# Altium footprint library 1_to_5_Pin.PcbLib: 133 footprints (part 4 of 9)
Each footprint in its own frame and in the unit in brackets; x right, y up, seen from the top. Pads: shape width x height; smd on the part's side, far side on the other; paste and mask are expansions set on the pad; w line width, h text height; cw(c..) or ccw(c..) is an arc to the next point about the centre after c.
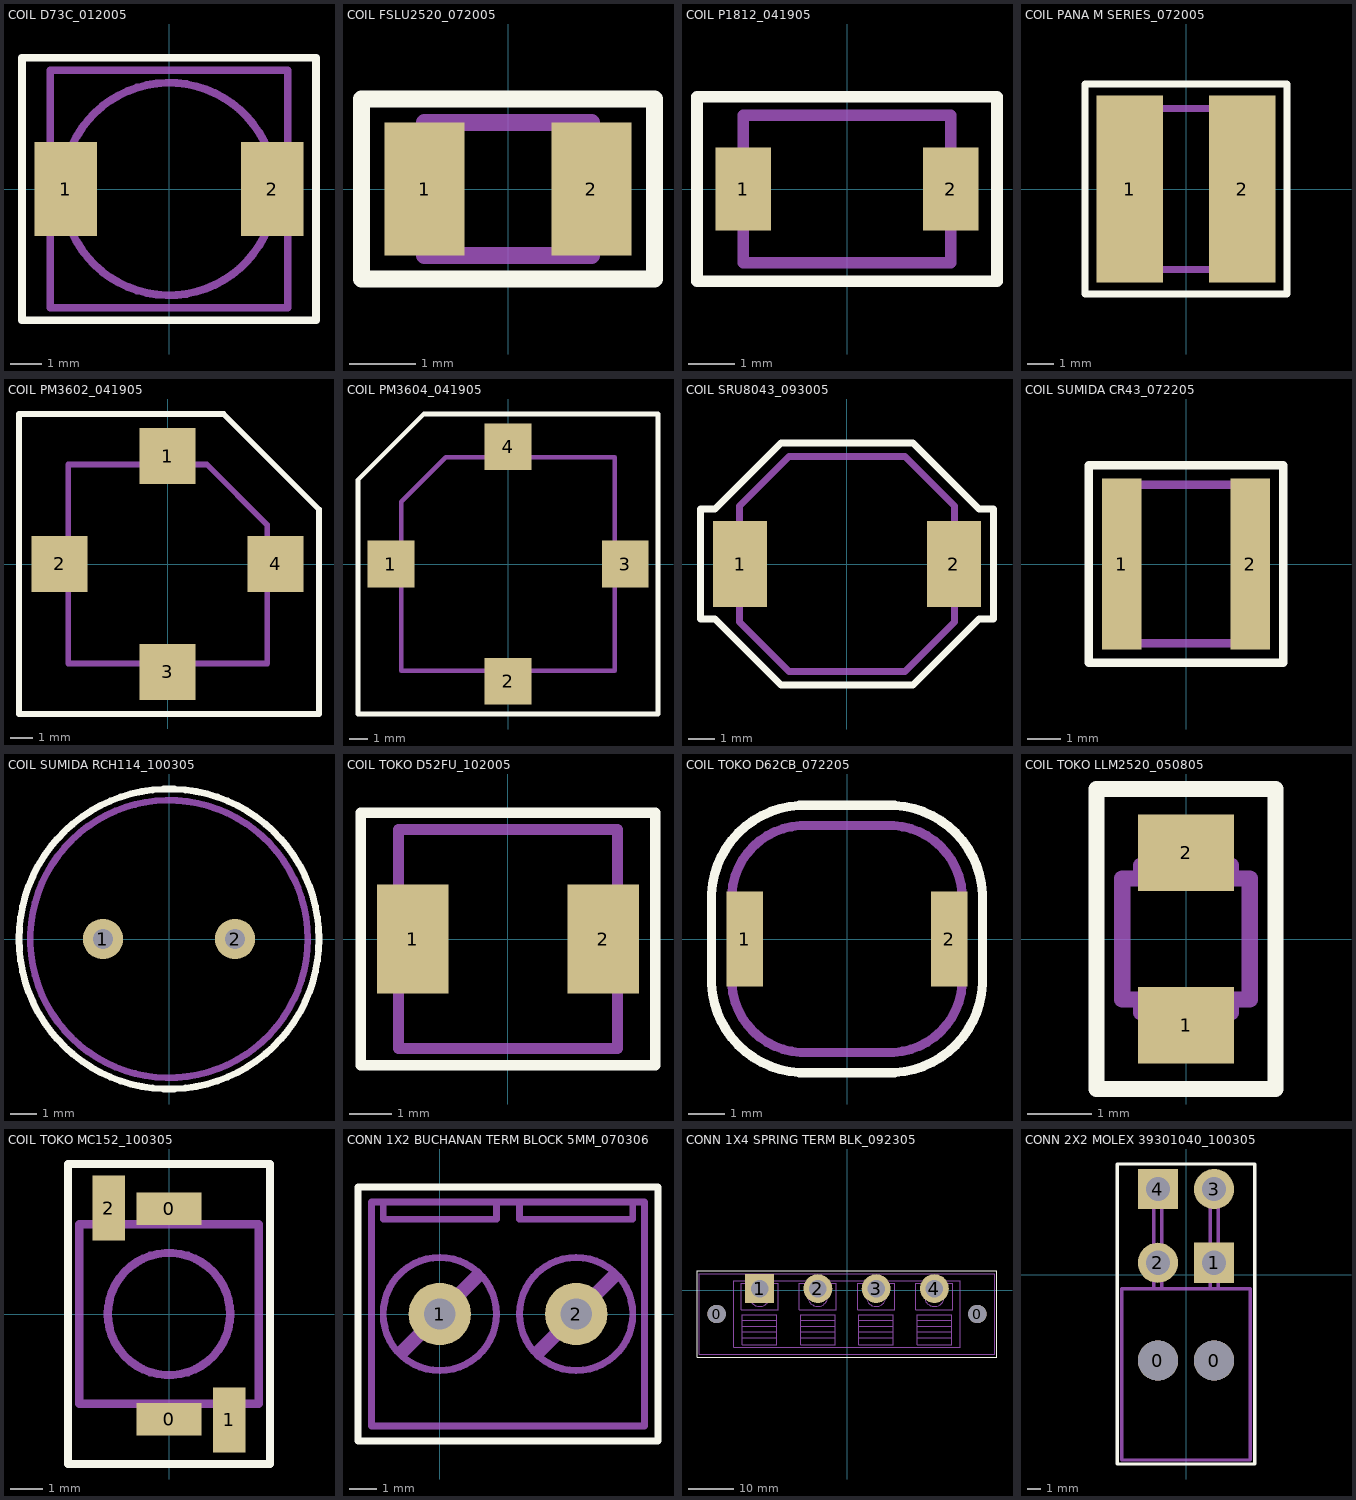
[diagram p3: the footprints below, top view; thin cyan lines are the x and y axes]

## COIL D73C_012005 [mm] "SMT"
height 5.334
pads (2):
  rect 2x3 smd: 1(-3.3,0) 2(3.3,0)
Top Overlay:
  lines w0.254: -4.7,-4.2 -4.7,4.2 4.7,4.2 4.7,0.1 4.7,-4.2 -4.7,-4.2
Assembly Outline:
  circle w0.254: c0,0 r3.4
  lines w0.254: -3.8,-1 -4.1,-1 -4.1,1 -3.8,1 -3.8,0 ; 3.8,-1 4.1,-1 4.1,1 3.8,1 3.8,0 ; -3.8,0 -3.8,3.8 3.8,3.8 3.8,-3.8 -3.8,-3.8 -3.8,0
Assembly Designator:
  text ".Designator" at -1.143,1.397 h1.02
Assembly Comment:
  text ".Comment" at -2.794,-0.381 h1.02

## COIL FSLU2520_072005 [mm] "SM"
height 1.8
pads (2):
  rect 1.2x2 smd: 1(-1.25,0) 2(1.25,0)
Top Overlay:
  lines w0.254: -2.2,-1.35 0,-1.35 2.2,-1.35 2.2,0 2.2,1.35 0,1.35 -2.2,1.35 -2.2,0 -2.2,-1.35
Assembly Outline:
  lines w0.254: 0,1 -1.25,1 ; -1.25,1 1.25,1 1.25,-1 -1.25,-1 -1.25,1
Assembly Designator:
  text ".Designator" at -0.75,-0.475 h1.02
Assembly Comment:
  text ".Comment" at -3.025,-2.475 h1.02

## COIL P1812_041905 [mm] "SMT"
height 3.175
pads (2):
  rect 1.2x1.8 smd: 1(-2.25,0) 2(2.25,0)
Top Overlay:
  lines w0.254: -3.25,-2 3.25,-2 3.25,2 -0.85,2 -3.25,2 -3.25,-2
Assembly Outline:
  lines w0.254: -2.25,-1.6 2.25,-1.6 2.25,1.6 -2.25,1.6 -2.25,-1.6
Assembly Designator:
  text ".Designator" at -1.488,-0.381 h1.02
Assembly Comment:
  text ".Comment" at -3.139,-2.667 h1.02

## COIL PANA M SERIES_072005 [mm] "SMT"
height 2
pads (2):
  rect 2.5x7 smd: 1(-2.1,0) 2(2.1,0)
Top Overlay:
  lines w0.254: -3.775,-3.925 3.775,-3.925 3.775,0 3.775,3.925 0,3.925 -3.775,3.925 -3.775,0 -3.775,-3.925
Assembly Outline:
  lines w0.254: -3,-1.8 -3,0 -3,1.8 -1.8,3 0,3 1.8,3 3,1.8 3,-1.8 1.8,-3 -1.8,-3 -3,-1.8
Assembly Designator:
  text ".Designator" at -0.85,-0.375 h1.02
Assembly Comment:
  text ".Comment" at -3.4,-5.125 h1.02

## COIL PM3602_041905 [mil] "SMT"
height 220
pads (4):
  rect 100x100 smd: 1(0,192.5) 2(-192.5,0) 3(0,-192.5) 4(192.5,0)
Top Overlay:
  lines w10: -265,-267.5 0,-267.5 270,-267.5 270,97.5 100,267.5 -265,267.5 -265,-267.5
Assembly Outline:
  lines w10: -177.5,-40 -227.5,-40 -227.5,0 -227.5,40 -177.5,40 ; -177.5,0 -177.5,-177.5 ; -40,-177.5 -40,-227.5 0,-227.5 40,-227.5 40,-177.5 ; -40,177.5 -40,227.5 0,227.5 40,227.5 40,177.5 ; 177.5,-40 227.5,-40 227.5,0 227.5,40 177.5,40 ; -177.5,-177.5 177.5,-177.5 177.5,70 70,177.5 -177.5,177.5 -177.5,-177.5
Assembly Designator:
  text ".Designator" at -75,60 h40
Assembly Comment:
  text ".Comment" at -95,-115 h40

## COIL PM3604_041905 [mil] "SMT"
height 250
pads (4):
  rect 100x100 smd: 1(-250,0) 2(0,-250) 3(250,0) 4(0,250)
Top Overlay:
  lines w10: -320,-320 320,-320 320,-265 320,0 320,270 320,320 -180,320 -320,180 -320,0 -320,-320
Assembly Outline:
  lines w10: -227.5,-40 -277.5,-40 -277.5,0 -277.5,40 -227.5,40 ; -40,-227.5 -40,-277.5 0,-277.5 40,-277.5 40,-227.5 ; -40,227.5 -40,277.5 0,277.5 40,277.5 40,227.5 ; 227.5,-40 277.5,-40 277.5,0 277.5,40 227.5,40 ; -227.5,-227.5 -227.5,-177.5 -227.5,70 -227.5,132.5 -132.5,227.5 -70,227.5 177.5,227.5 227.5,227.5 227.5,177.5 227.5,-177.5 227.5,-227.5 177.5,-227.5 -177.5,-227.5 -227.5,-227.5
Assembly Designator:
  text ".Designator" at -101.69,64.77 h40
Assembly Comment:
  text ".Comment" at -121.69,-110.23 h40

## COIL SRU8043_093005 [mm] "SMT"
height 4.3
pads (2):
  rect 2x3.2 smd: 1(-3.975,0) 2(3.975,0)
Top Overlay:
  lines w0.254: -5.45,-2.05 -4.9,-2.05 -2.45,-4.5 0,-4.5 2.45,-4.5 4.9,-2.05 5.45,-2.05 5.45,0 5.45,2.05 4.9,2.05 2.45,4.5 0,4.5 -2.45,4.5 -4.9,2.05 -5.45,2.05 -5.45,0 -5.45,-2.05
Assembly Outline:
  lines w0.254: -4,-2.15 -4,0 -4,2.15 -2.15,4 2.15,4 4,2.15 4,-2.15 2.15,-4 -2.15,-4 -4,-2.15
Assembly Designator:
  text ".Designator" at -1.1,-0.35 h1.02
Assembly Comment:
  text ".Comment" at -4.65,-5.8 h1.02

## COIL SUMIDA CR43_072205 [mm] "SMT"
height 3.5
pads (2):
  rect 1.2x5.2 smd: 1(-1.95,0) 2(1.95,0)
Top Overlay:
  lines w0.254: -2.95,-3 0,-3 2.95,-3 2.95,0 2.95,3 0,3 -2.95,3 -2.95,0 -2.95,-3
Assembly Outline:
  lines w0.254: 0,2.4 -2.15,2.4 ; -2.15,2.4 2.15,2.4 2.15,-2.4 -2.15,-2.4 -2.15,2.4
Assembly Designator:
  text ".Designator" at -0.875,-0.375 h1.02
Assembly Comment:
  text ".Comment" at -3.225,-4.275 h1.02

## COIL SUMIDA RCH114_100305 [mil] "TH"
height 566.93
pads (2):
  round 60 hole 30: 1(-98.43,0) 2(98.43,0)
Top Overlay:
  circle w10: c0,0 r223.43
Assembly Outline:
  circle w10: c0,0 r206.69
Assembly Designator:
  text ".Designator" at -30.51,-14.76 h40
Assembly Comment:
  text ".Comment" at -149.61,-97.44 h40

## COIL TOKO D52FU_102005 [mm] "SMT"
height 2.2
pads (2):
  rect 1.7x2.6 smd: 1(-2.262,0) 2(2.263,0)
Top Overlay:
  lines w0.254: -3.5,-3 -2.375,-3 3.5,-3 3.5,0 3.5,3 2.375,3 -3.5,3 -3.5,0 -3.5,-3
Assembly Outline:
  lines w0.254: -2.6,-2.6 -2.6,0 -2.6,2.6 0,2.6 2.6,2.6 2.6,0 2.6,-2.6 0,-2.6 -2.6,-2.6
Assembly Designator:
  text ".Designator" at -0.8,-0.35 h1.02
Assembly Comment:
  text ".Comment" at -3.375,-4.375 h1.02

## COIL TOKO D62CB_072205 [mm] "SMT"
height 2.5
pads (2):
  rect 1x2.6 smd: 1(-2.8,0) 2(2.8,0)
Top Overlay:
  lines w0.254: -3.702,-0.969 ccw(c-1.162,-1.112) -1.306,-3.652 1.306,-3.652 ccw(c1.162,-1.112) 3.702,-0.969 3.702,0.969 ccw(c1.162,1.112) 1.306,3.652 -1.306,3.652 ccw(c-1.162,1.112) -3.702,0.969 -3.702,-0.969
Assembly Outline:
  lines w0.254: -3.15,-1 ccw(c-1.163,-1.113) -1.275,-3.1 1.275,-3.1 ccw(c1.163,-1.113) 3.15,-1 3.15,1 ccw(c1.163,1.113) 1.275,3.1 -1.275,3.1 ccw(c-1.163,1.113) -3.15,1 -3.15,-1
Assembly Designator:
  text ".Designator" at -1.35,-0.35 h1.02
Assembly Comment:
  text ".Comment" at -3.4,-4.725 h1.02

## COIL TOKO LLM2520_050805 [mm] "SMT"
height 3.302
pads (2):
  rect 1.5x1.2 smd: 1(0,-1.35) 2(0,1.35)
Top Overlay:
  lines w0.254: -1.4,-2.35 -1.4,0.05 -1.4,2.35 1.4,2.35 1.4,-2.35 -1.4,-2.35
Assembly Outline:
  lines w0.254: 0,-0.95 0,-1.15 ; 0,0.95 0,1.15 ; -0.7,-0.95 0.7,-0.95 ; -0.7,-0.95 -1,-0.95 -1,0.95 -0.7,0.95 ; -0.7,-0.95 -0.7,-1.15 0,-1.15 ; -0.7,0.95 0.7,0.95 ; -0.7,0.95 -0.7,1.15 0,1.15 ; 0,-1.15 0.7,-1.15 0.7,-0.95 ; 0,1.15 0.7,1.15 0.7,0.95 ; 0.7,-0.95 1,-0.95 1,0.95 0.7,0.95
Assembly Designator:
  text ".Designator" at -1.472,-0.714 h1.02
Assembly Comment:
  text ".Comment" at 2.338,-1.476 h1.02

## COIL TOKO MC152_100305 [mm] "SMT"
height 5.2
pads (4):
  rect 2x1 smd: 0(0,-3.225) 0(0,3.225)
  rect 1x2 smd: 1(1.85,-3.25) 2(-1.85,3.25)
Top Overlay:
  lines w0.254: -3.1,-4.6 0,-4.6 3.1,-4.6 3.1,0 3.1,4.6 0,4.6 -3.1,4.6 -3.1,0 -3.1,-4.6
Assembly Outline:
  circle w0.254: c0,0 r1.875
  lines w0.254: -1.85,2.75 -2.1,2.75 -2.1,3.5 -1.6,3.5 -1.6,2.75 ; -0.5,-2.75 -0.5,-3.5 0,-3.5 0.5,-3.5 0.5,-2.75 ; -0.5,2.75 -0.5,3.5 0,3.5 0.5,3.5 0.5,2.75 ; 0,2.75 2.75,2.75 ; 1.6,-2.75 1.6,-3.5 2.1,-3.5 2.1,-2.75 1.85,-2.75 ; 2.75,2.75 2.75,-2.75 -2.75,-2.75 -2.75,2.75 2.75,2.75
Assembly Designator:
  text ".Designator" at -1.025,-0.4 h1.02
Assembly Comment:
  text ".Comment" at -2.375,-6.275 h1.02

## CONN 1X2 BUCHANAN TERM BLOCK 5MM_070306 [mil] "TH"
height 393.7
pads (2):
  round 90 hole 45: 1(0,0) 2(196.85,0)
Top Overlay:
  lines w10: -118.11,-183.07 314.96,-183.07 314.96,0 314.96,183.07 -16.73,183.07 -118.11,183.07 -118.11,0 -118.11,-183.07
Assembly Outline:
  circle w10: c196.85,0 r81.69
  circle w10: c0,0 r81.69
  lines w10: -81.69,161.42 -81.69,136.81 0,136.81 81.69,136.81 81.69,161.42 ; 115.16,161.42 115.16,136.81 196.85,136.81 278.54,136.81 278.54,161.42 ; -98.43,-161.42 -98.43,0 -98.43,161.42 0,161.42 295.28,161.42 295.28,0 295.28,-161.42 0,-161.42 -98.43,-161.42
  lines w20: -53.15,-53.15 0,0 53.15,53.15 ; 143.7,-53.15 196.85,0 250,53.15
Assembly Designator:
  text ".Designator" at 61.02,-16.73 h40
Assembly Comment:
  text ".Comment" at 17.72,-136.81 h40

## CONN 1X4 SPRING TERM BLK_092305 [mil] "TH"
height 540
pads (6):
  round 160 hole 160: 0(-1130,-205) 0(1130,-205)
  rect 250x250 hole 150: 1(-757.5,15)
  round 250 hole 150: 2(-252.5,15) 3(252.5,15) 4(757.5,15)
Top Overlay:
  lines w10: -252.5,170 1300,170 1300,-580 -1300,-580 -1300,170 252.5,170
Assembly Outline:
  circle w10: c757.5,-55 r85
  circle w10: c252.5,-55 r85
  circle w10: c-252.5,-55 r85
  circle w10: c-757.5,-55 r85
  lines w10: -607.5,-410 -872.5,-410 -907.5,-410 -907.5,-360 ; -607.5,-360 -872.5,-360 -907.5,-360 ; -607.5,-310 -872.5,-310 -907.5,-310 ; -607.5,-260 -882.5,-260 -907.5,-260 ; -597.5,-55 -597.5,60 ; -102.5,-410 -367.5,-410 -402.5,-410 -402.5,-360 ; -102.5,-360 -367.5,-360 -402.5,-360 ; -102.5,-310 -367.5,-310 -402.5,-310 ; -102.5,-260 -377.5,-260 -402.5,-260 ; -92.5,-55 -92.5,60 ; 402.5,-410 137.5,-410 102.5,-410 102.5,-360 ; 402.5,-360 137.5,-360 102.5,-360 ; 402.5,-310 137.5,-310 102.5,-310 ; 402.5,-260 127.5,-260 102.5,-260 ; 412.5,-55 412.5,60 ; 907.5,-410 642.5,-410 607.5,-410 607.5,-360 ; 907.5,-360 642.5,-360 607.5,-360 ; 907.5,-310 642.5,-310 607.5,-310 ; 907.5,-260 632.5,-260 607.5,-260 ; 917.5,-55 917.5,60 ; 1280,-205 1280,145 ; -907.5,-360 -907.5,-310 ; -907.5,-310 -907.5,-260 ; -907.5,-260 -907.5,-210 ; -907.5,-210 -607.5,-210 -607.5,-470 -907.5,-470 -907.5,-210 ; -597.5,60 -597.5,-170 -917.5,-170 -917.5,60 -597.5,60 ; -402.5,-360 -402.5,-310 ; -402.5,-310 -402.5,-260 ; -402.5,-260 -402.5,-210 ; -402.5,-210 -102.5,-210 -102.5,-470 -402.5,-470 -402.5,-210 ; -92.5,60 -92.5,-170 -412.5,-170 -412.5,60 -92.5,60 ; 102.5,-360 102.5,-310 ; 102.5,-310 102.5,-260 ; 102.5,-260 102.5,-210 ; 102.5,-210 402.5,-210 402.5,-470 102.5,-470 102.5,-210 ; 412.5,60 412.5,-170 92.5,-170 92.5,60 412.5,60 ; 607.5,-360 607.5,-310 ; 607.5,-310 607.5,-260 ; 607.5,-260 607.5,-210 ; 607.5,-210 907.5,-210 907.5,-470 607.5,-470 607.5,-210 ; 917.5,60 917.5,-170 597.5,-170 597.5,60 917.5,60 ; 1280,145 0,145 -1280,145 -1280,-555 1280,-555 1280,145 ; -980,-495 980,-495 980,85 -980,85 -980,-495

## CONN 2X2 MOLEX 39301040_100305 [mm] "TH"
height 9.6
pads (6):
  round 3 hole 3: 0(-2.1,-6.4) 0(2.1,-6.4)
  rect 3x3 hole 1.8: 1(2.1,0.9) 4(-2.1,6.4)
  round 3 hole 1.8: 2(-2.1,0.9) 3(2.1,6.4)
Top Overlay:
  lines w0.254: -5.125,-14.125 -5.125,8.275 0,8.275 5.125,8.275 5.125,-14.125 0,-14.125 -5.125,-14.125
Assembly Outline:
  lines w0.254: -2.4,-1.025 -2.4,6.4 -1.8,6.4 -1.8,-1.025 -2.1,-1.025 ; -2.4,0.9 -2.1,0.9 -1.8,0.9 ; 1.8,-1.025 1.8,6.4 2.4,6.4 2.4,-1.025 2.1,-1.025 ; 1.8,0.9 2.1,0.9 2.4,0.9 ; -4.8,-13.825 -4.8,-1.025 4.8,-1.025 4.8,-13.825 -4.8,-13.825
Assembly Designator:
  text ".Designator" at -0.425,-3.85 h1.02
Assembly Comment:
  text ".Comment" at -3.925,-10.125 h1.02